# EAGLE library part 1X7_HEADER (library ModernDevice)
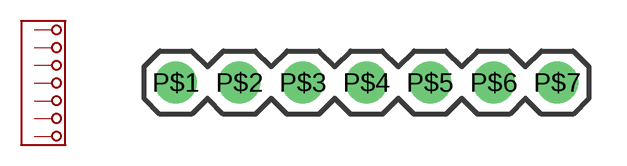
[diagram p3: symbol with the pads of 1X7_HEADER; footprint 1X7_HEADER]

Designator prefix -

## 1X7_HEADER  [1X7_HEADER]
P$1  P$1
P$2  P$2
P$3  P$3
P$4  P$4
P$5  P$5
P$6  P$6
P$7  P$7

## Footprint 1X7_HEADER (pad centres in mm)
drill 0.8 pad 1.676 round: P$1 -8.89,0; P$2 -6.35,0; P$3 -3.81,0; P$4 -1.27,0; P$5 1.27,0; P$6 3.81,0; P$7 6.35,0